# EAGLE library part TMC2208 (library MouseLib)
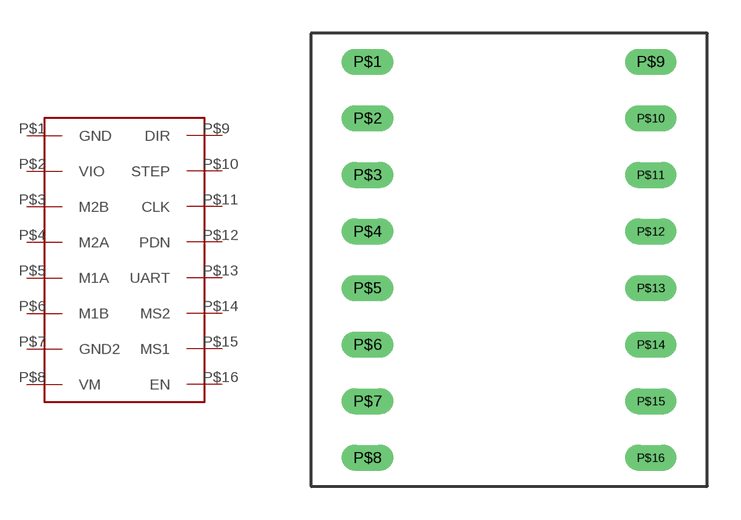
[diagram p8: symbol with the pads of TMC2208PINS; footprint TMC2208PINS]

Designator prefix -

## TMC2208  [TMC2208PINS]
P$1  GND
P$2  VIO
P$3  M2B
P$4  M2A
P$5  M1A
P$6  M1B
P$7  GND2
P$8  VM
P$9  DIR
P$10  STEP
P$11  CLK
P$12  PDN
P$13  UART
P$14  MS2
P$15  MS1
P$16  EN

## Footprint TMC2208PINS (pad centres in mm)
drill 0.65 long: P$1 -6.35,10.16; P$2 -6.35,7.62; P$3 -6.35,5.08; P$4 -6.35,2.54; P$5 -6.35,0; P$6 -6.35,-2.54; P$7 -6.35,-5.08; P$8 -6.35,-7.62; P$9 6.35,10.16; P$10 6.35,7.62; P$11 6.35,5.08; P$12 6.35,2.54; P$13 6.35,0; P$14 6.35,-2.54; P$15 6.35,-5.08; P$16 6.35,-7.62